# Altium schematic symbol library MLBSchLib.SchLib: 44 symbols
Pins are listed as number, name and electrical type; pins without a type are passive.

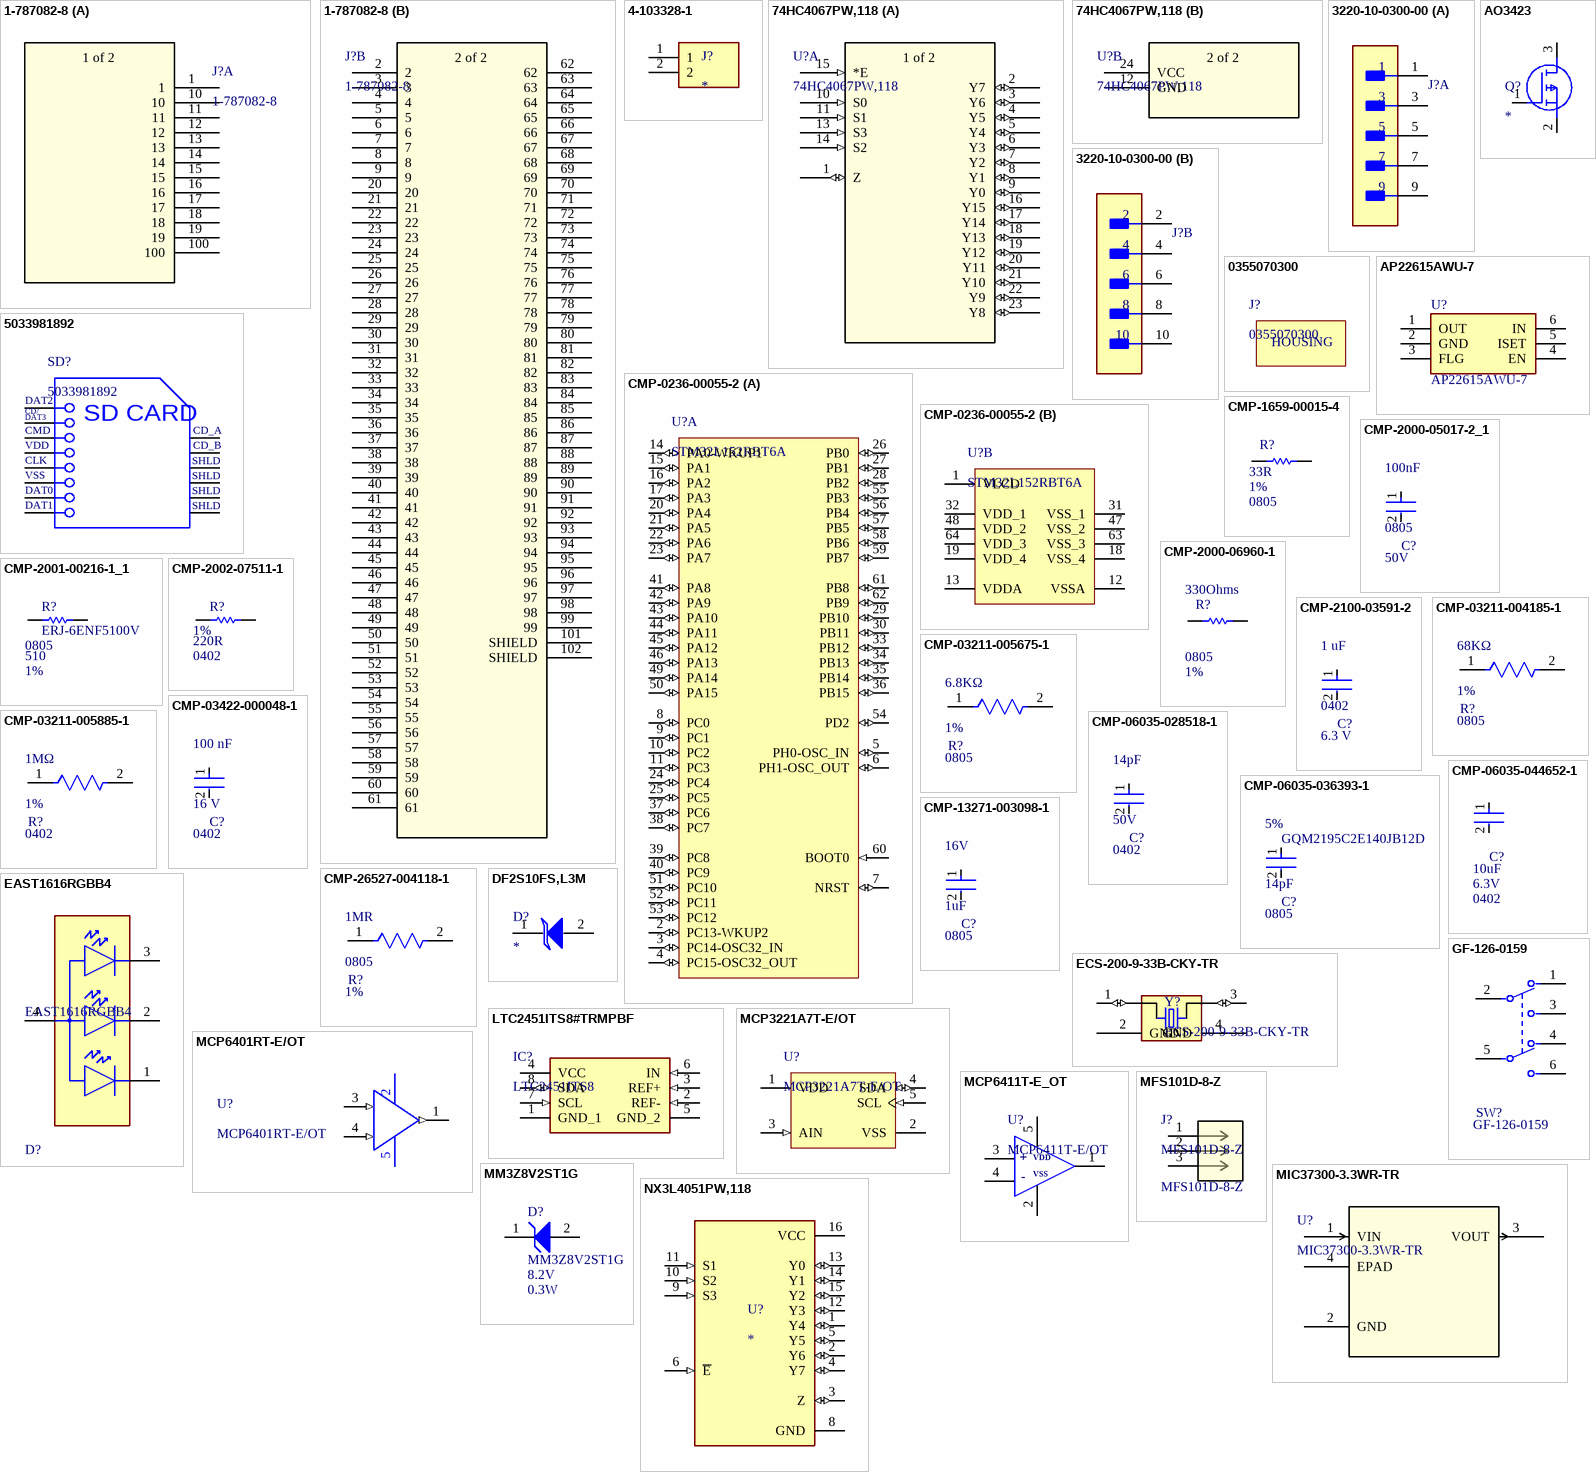
[diagram p0: symbols 1-787082-8 to NX3L4051PW,118]

## 1-787082-8
designator J?
No Description Available; Mfr_Name: TE Connectivity; Manufacturer: TE Connectivity AMP Connectors; Copyright: Copyright (C) 2022 Ultra Librarian. All rights reserved.; Manufacturer Part Number: 1-787082-8; Supplier Part Number: A35091-ND; RefDes: RefDes; Type: DEV; Supplier: Digi-Key
footprint CONN100_1-787082-8_TEC
part A pins: 1, 10, 11, 12, 13, 14, 15, 16, 17, 18, 19, 100
part B pins: 2, 3, 4, 5, 6, 7, 8, 9, 20, 21, 22, 23, 24, 25, 26, 27, 28, 29, 30, 31, 32, 33, 34, 35, 36, 37, 38, 39, 40, 41, 42, 43, 44, 45, 46, 47, 48, 49, 50, 51, 52, 53, 54, 55, 56, 57, 58, 59, 60, 61, 62, 63, 64, 65, 66, 67, 68, 69, 70, 71, 72, 73, 74, 75, 76, 77, 78, 79, 80, 81, 82, 83, 84, 85, 86, 87, 88, 89, 90, 91, 92, 93, 94, 95, 96, 97, 98, 99, 101 SHIELD, 102 SHIELD
part A text: 1 of 2
part B text: 2 of 2

## 4-103328-1
designator J?
Connector Header Through Hole 2 position; Manufacturer: TE Connectivity AMP Connectors; MP: 4-103328-1; MF: TE Connectivity; SnapEDA_Link: https://www.snapeda.com/parts/4-103328-1/TE%20Connectivity%20AMP%20Connectors/view-part/2384420/?ref=snap; TE_purchase_URL: https://www.te.com/usa-en/product-4-103328-1.html?te_bu=Cor&te_type=disp&te_campaign=seda_glo_cor-seda-global-disp-prtnr-fy19-seda-model-bom-cta_sma-317_1&elqCampaignId=32493; Availability: Unavailable; Value: *; EU_RoHS_Compliance: Compliant; Price: None; Package: None; Supplier: Digi-Key; Supplier Part Number: A121364-ND; Manufacturer Part Number: 4-103328-1
footprint TE_4-103328-1
pins: 1, 2

## 74HC4067PW,118
designator U?
No Description Available; Mfr_Name: Nexperia; Copyright: Copyright (C) 2022 Ultra Librarian. All rights reserved.; Manufacturer_Part_Number: 74HC4067PW,118; Digi-Key_Part_Number_1: 1727-2042-2-ND; Digi-Key_Part_Number_2: 1727-2042-1-ND; Digi-Key_Part_Number_3: 1727-2042-6-ND; RefDes: RefDes; Type: DEV
footprint TSSOP24_SOT355-1_NEX
part A pins: 1 Z (io), 2 Y7 (io), 3 Y6 (io), 4 Y5 (io), 5 Y4 (io), 6 Y3 (io), 7 Y2 (io), 8 Y1 (io), 9 Y0 (io), 10 S0 (in), 11 S1 (in), 13 S3 (in), 14 S2 (in), 15 *E (in), 16 Y15 (io), 17 Y14 (io), 18 Y13 (io), 19 Y12 (io), 20 Y11 (io), 21 Y10 (io), 22 Y9 (io), 23 Y8 (io)
part B pins: 12 GND, 24 VCC (power)
part A text: 1 of 2
part B text: 2 of 2

## 3220-10-0300-00
designator J?
CONN HEADER SMD 10POS 1.27MM; Manufacturer: CNC Tech; Manufacturer Part Number: 3220-10-0300-00; Supplier: Digi-Key; Supplier Part Number: 1175-1629-ND
footprint CNC_Tech_0_MFG
part A pins: 1, 3, 5, 7, 9
part B pins: 2, 4, 6, 8, 10

## 0355070300
designator J?
Manufacturer: Molex; Manufacturer Part Number: 0355070300; Supplier: Digi-Key; Supplier Part Number: WM5982-ND
text: HOUSING

## 5033981892
designator SD?
Micro SD Connector, Pitch 1.1 mm, 8 Position, Height 1.4 mm, -25 to 85 degC, RoHS, Tape and Reel; Manufacturer: Molex; Voltage Rating: 10VAC/DC; Current Rating: 500mA; Manufacturer URL: http://www.molex.com/; Package Reference: 503398-1892; Packaging: Reel; RoHS: Details; Brand: Molex; Datasheet URL: http://www.molex.com/pdm_docs/sd/5033981892_sd.pdf; Mounting Technology: SurfaceMount; Factory Pack Quantity: 2400; Datasheet Version: Rev. E, 04/2006; Series: 503398; Product Category: MemoryCardConnectors; Package Description: Micro SD Connector, Pitch 1.1 mm, 8 Position, Height 1.4 mm; Supplier: Digi-Key; Supplier Part Number: WM11190CT-ND; Manufacturer Part Number: 5033981892
footprint MOLX-503398-1892_V (CONN, 8-Leads, Body 14.05x13.2mm, Pitch 1.1mm)
pins: 1 DAT2, 2 CD/DAT3, 3 CMD, 4 VDD, 5 CLK, 6 VSS, 7 DAT0, 8 DAT1, 9 CD_A, 10 CD_B, 11 SHLD, 12 SHLD, 13 SHLD, 14 SHLD
text: CD/; DAT3; SD CARD

## AO3423
designator Q?
MOSFET (P-Channel); Manufacturer: Alpha & Omega Semiconductors; Manufacturer Part Number: AO3423; Datasheet Link: http://www.aosmd.com/pdfs/datasheet/AO3423.pdf; Height: 1.25mm; Supplier Part Number: 785-1016-1-ND; Supplier: Digi-Key; Arrow Part Number: AO3423; Arrow Price/Stock: https://www.arrow.com/en/products/ao3423/alpha-and-omega-semiconductor?region=nac
footprint SOT95P280X125-3N
pins: 1 G, 2 S, 3 D

## AP22615AWU-7
designator U?
Integrated Circuit; Manufacturer: Diodes Inc.; Datasheet Link: https://www.diodes.com/assets/Datasheets/AP22815-615.pdf; Height: 1mm; Supplier: Digi-Key; Supplier Part Number: AP22615AWU-7DICT-ND; Arrow Part Number: AP22615AWU-7; Arrow Price/Stock: https://www.arrow.com/en/products/ap22615awu-7/diodes-incorporated; Manufacturer Part Number: AP22615AWU-7
footprint SOT95P280X100-6N
footprint SOT95P280X100-6N
pins: 1 OUT, 2 GND, 3 FLG, 4 EN, 5 ISET, 6 IN

## CMP-0236-00055-2
designator U?, comment STM32L152RBT6A
ARM Cortex-M3 32-bit MCU, 128 KB Flash, 16 KB Internal RAM, 51 I/Os, 64-pin LQFP, -40 to 85 degC, Tray; Manufacturer: STMicroelectronics; D/A Converter: 2x12-bit (2 Channel); Internal RAM Size (kB): 16; Data E2PROM nom (B): 4096; FLASH Size (Prog) (kB): 128; Supply Voltage(Vcc) min (V): 1.65; I/Os (High Current): 51; Operating Frequency(F) (Processor speed) (MHz): 32; Packing: Tray; ComponentLink1Description: Manufacturer URL; PackageVersion: Rev. 4, 06/2013; DatasheetVersion: Rev. 8; PackageDescription: 64-Pin Low Profile Quad Flat Package, 10 x 10 mm Body, 0.5 mm Pitch; ComponentLink3URL: http://www.st.com/st-web-ui/static/active/en/resource/technical/document/datasheet/DM00037051.pdf; Mounting Technology: Surface Mount; PackageReference: LQFP64; ComponentLink1URL: http://www.st.com/web/en/home.html; ComponentLink2Description: Datasheet; ComponentLink3Description: Package Specification; Core: ARM Cortex-M3; PartNumber: STM32L152RBT6A; ComponentLink2URL: http://www.st.com/st-web-ui/static/active/en/resource/technical/document/datasheet/CD00277537.pdf; Manufacturer Part Number: STM32L152RBT6A; Supplier: Mouser; Supplier Part Number: 511-STM32L152RBT6A
footprint STM-LQFP64_L (Thin QFP, 64-Leads, Body 10x10mm, Pitch 0.5mm, IPC High Density)
footprint STM-LQFP64_N (Thin QFP, 64-Leads, Body 10x10mm, Pitch 0.5mm, IPC Medium Density)
footprint STM-LQFP64_V (Thin QFP, 64-Leads, Body 10x10mm, Pitch 0.5mm, ST Recommended)
footprint STM-LQFP64_M (Thin QFP, 64-Leads, Body 10x10mm, Pitch 0.5mm, IPC Low Density)
part A pins: 2 PC13-WKUP2 (io) "PC13-WKUP2/PC13/RTC_TAMP1/RTC_TS/RTC_OUT/WKUP2", 3 PC14-OSC32_IN (io) "PC14-OSC32_IN/PC14/OSC32_IN", 4 PC15-OSC32_OUT (io) "PC15-OSC32_OUT/PC15/OSC32_OUT", 5 PH0-OSC_IN (io) "PH0-OSC_IN/PH0/OSC_IN", 6 PH1-OSC_OUT (io) "PH1-OSC_OUT/PH1/OSC_OUT", 7 NRST (io), 8 PC0 (io) "PC0/ADC_IN10/LCD_SEG18/COMP1_INP", 9 PC1 (io) "PC1/ADC_IN11/LCD_SEG19/COMP1_INP", 10 PC2 (io) "PC2/ADC_IN12/LCD_SEG20/COMP1_INP", 11 PC3 (io) "PC3/ADC_IN13/LCD_SEG21/COMP1_INP", 14 PA0-WKUP1 (io) "PA0-WKUP1/PA0/WKUP1/USART2_CTS/ADC_IN0/TIM2_CH1_ETR/COMP1_INP", 15 PA1 (io) "PA1/USART2_RTS/ADC_IN1/TIM2_CH2/LCD_SEG0/COMP1_INP", 16 PA2 (io) "PA2/USART2_TX/ADC_IN2/TIM2_CH3/TIM9_CH1/LCD_SEG1/COMP1_INP", 17 PA3 (io) "PA3/USART2_RX/ADC_IN3/TIM2_CH4/TIM9_CH2/LCD_SEG2/COMP1_INP", 20 PA4 (io) "PA4/SPI1_NSS/USART2_CK/ADC_IN4/DAC_OUT1/COMP1_INP", 21 PA5 (io) "PA5/SPI1_SCK/ADC_IN5/DAC_OUT2/TIM2_CH1_ETR/COMP1_INP", 22 PA6 (io) "PA6/SPI1_MISO/ADC_IN6/TIM3_CH1/LCD_SEG3/TIM10_CH1/COMP1_INP", 23 PA7 (io) "PA7/SPI1_MOSI/ADC_IN7/TIM3_CH2/LCD_SEG4/TIM11_CH1/COMP1_INP", 24 PC4 (io) "PC4/ADC_IN14/LCD_SEG22/COMP1_INP", 25 PC5 (io) "PC5/ADC_IN15/LCD_SEG23/COMP1_INP", 26 PB0 (io) "PB0/ADC_IN8/TIM3_CH3/LCD_SEG5/COMP1_INP/VREF_OUT", 27 PB1 (io) "PB1/ADC_IN9/TIM3_CH4/LCD_SEG6/COMP1_INP/VREF_OUT", 28 PB2 (io) "PB2/BOOT1", 29 PB10 (io) "PB10/I2C2_SCL/USART3_TX/TIM2_CH3/LCD_SEG10", 30 PB11 (io) "PB11/I2C2_SDA/USART3_RX/TIM2_CH4/LCD_SEG11", 33 PB12 (io) "PB12/SPI2_NSS/I2C2_SMBA/USART3_CK/LCD_SEG12/ADC_IN18/COMP1_INP/TIM10_CH1", 34 PB13 (io) "PB13/SPI2_SCK/USART3_CTS/LCD_SEG13/ADC_IN19/COMP1_INP/TIM9_CH1", 35 PB14 (io) "PB14/SPI2_MISO/USART3_RTS/LCD_SEG14/ADC_IN20/COMP1_INP/TIM9_CH2", 36 PB15 (io) "PB15/SPI2_MOSI/LCD_SEG15/ADC_IN21/COMP1_INP/TIM11_CH1/RTC_REFIN", 37 PC6 (io) "PC6/TIM3_CH1/LCD_SEG24", 38 PC7 (io) "PC7/TIM3_CH2/LCD_SEG25", 39 PC8 (io) "PC8/TIM3_CH3/LCD_SEG26", 40 PC9 (io) "PC9/TIM3_CH4/LCD_SEG27", 41 PA8 (io) "PA8/USART1_CK/MCO/LCD_COM0", 42 PA9 (io) "PA9/USART1_TX/LCD_COM1", 43 PA10 (io) "PA10/USART1_RX/LCD_COM2", 44 PA11 (io) "PA11/USART1_CTS/USB_DM/SPI1_MISO", 45 PA12 (io) "PA12/USART1_RTS/USB_DP/SPI1_MOSI", 46 PA13 (io) "PA13/JTMS/SWDAT", 49 PA14 (io) "PA14/JTCK/SWCLK", 50 PA15 (io) "PA15/JTDI/TIM2_CH1_ETR/SPI1_NSS/LCD_SEG17", 51 PC10 (io) "PC10/USART3_TX/LCD_SEG28/LCD_SEG40/LCD_COM4", 52 PC11 (io) "PC11/USART3_RX/LCD_SEG29/LCD_SEG41/LCD_COM5", 53 PC12 (io) "PC12/USART3_CK/LCD_SEG30/LCD_SEG42/LCD_COM6", 54 PD2 (io) "PD2/TIM3_ETR/LCD_SEG31/LCD_SEG43/LCD_COM7", 55 PB3 (io) "PB3/JTDO/TIM2_CH2/SPI1_SCK/COMP2_INM/LCD_SEG7", 56 PB4 (io) "PB4/NJTRST/TIM3_CH1/SPI1_MISO/COMP2_INP/LCD_SEG8", 57 PB5 (io) "PB5/I2C1_SMBA/TIM3_CH2/SPI1_MOSI/COMP2_INP/LCD_SEG9", 58 PB6 (io) "PB6/I2C1_SCL/TIM4_CH1/USART1_TX", 59 PB7 (io) "PB7/I2C1_SDA/TIM4_CH2/USART1_RX/PVD_IN", 60 BOOT0 (in), 61 PB8 (io) "PB8/TIM4_CH3/I2C1_SCL/LCD_SEG16/TIM10_CH1", 62 PB9 (io) "PB9/TIM4_CH4/I2C1_SDA/LCD_COM3/TIM11_CH1"
part B pins: 1 VLCD (power), 12 VSSA (power), 13 VDDA (power), 18 VSS_4 (power), 19 VDD_4 (power), 31 VSS_1 (power), 32 VDD_1 (power), 47 VSS_2 (power), 48 VDD_2 (power), 63 VSS_3 (power), 64 VDD_3 (power)

## CMP-1659-00015-4
designator R?, comment Package Reference: 0805  Tolerance: 1%  Resistance: 33R  (hidden comment: RC0805FR-0733RL)
Chip Resistor, 33 Ohm, +/- 1%, 0.125 W, -55 to 155 degC, 0805 (2012 Metric), RoHS, Tape and Reel; Manufacturer: Yageo; Voltage Rating: 150 V; Max Operating Temperature: 155 degC; DatasheetVersion: Rev. 4, 02/2016; RoHSCompliant: true; ComponentLink2Description: Datasheet; PackageDescription: 2-Pin Surface Mounted Device, Body 2 x 1.25 mm; Package Quantity: 5000; Packaging: Tape and Reel; Min Operating Temperature: -55 degC; Mount: Surface Mount; REACH SVHC: No SVHC; ComponentLink1Description: Manufacturer URL; ComponentLink1URL: http://www.yageo.com/; Pins: 2; Mounting Technology: Surface Mount; Height: 0.5 mm; ComponentLink2URL: http://www.yageo.com/documents/recent/PYu-RC_Group_51_RoHS_L_04.pdf; PackageReference: 0805; Length: 2 mm; Manufacturer Part Number: RC0805FR-0733RL; Supplier: Digi-Key; Supplier Part Number: 311-33.0CRCT-ND
footprint RESC2013X60X35NL10T20 (Chip Resistor, 2-Leads, Body 2.1x1.35mm, IPC Medium Density)
footprint RESC2013X60X35LL10T20 (Chip Resistor, 2-Leads, Body 2.1x1.35mm, IPC High Density)
footprint RESC2013X60X35ML10T20 (Chip Resistor, 2-Leads, Body 2.1x1.35mm, IPC Low Density)
pins: 1, 2

## CMP-2000-05017-2_1
designator C?, comment Voltage: 50V  Case/Package: 0805  Capacitance: 100nF  (hidden comment: CL21B104KBCNNNC)
CL21 Series 0805 100nF 50V ±10% Tolerance X7R Multilayer Ceramic Chip Capacitor; Manufacturer: Samsung Electro-Mechanics; Depth: 1.25mm; Height: 0.85mm; Width: 0.049inch; Tolerance: 10%; Case Code (Metric): 2012; Case Code (Imperial): 0805; Material: Ceramic; Thickness: 0.037inch; Min Operating Temperature: -55°C; Contact Plating: Tin; Length: 2mm; Mount: Surface Mount; Voltage Rating (DC): 50V; Lead Free: Lead Free; Dielectric: X7R; Radiation Hardening: No; Voltage Rating: 50V; Packaging: Tape and Reel; Max Operating Temperature: 125°C; Manufacturer Part Number: CL21B104KBCNNNC; Supplier: Digi-Key; Supplier Part Number: 1276-1003-1-ND
footprint FP-CL21-IPC_A
footprint FP-CL21-IPC_B
footprint FP-CL21-IPC_C
pins: 1, 2

## CMP-2000-06960-1
designator R?, comment Tolerance: 1%  Case Code - in: 0805  Resistance: 330Ohms  (hidden comment: RC0805FR-07330RL)
Chip Resistor, 330 Ohm, +/- 1%, 125 mW, -55 to 155 degC, 0805 (2012 Metric), RoHS, Tape and Reel; Manufacturer: Yageo; Voltage Rating: 150V; Temperature Coefficient: 100PPM/C; Power Rating: 125mW(1/8W); Datasheet Version: Rev. 7, 05/2017; Termination Style: SMD/SMT; Case Code - mm: 2012; Package Description: 2-Pin Surface Mounted Device, Body 2 x 1.25 mm; Operating Temperature Range: -55Cto+155C; Packaging: Reel; Package Reference: 0805; Mounting Technology: SurfaceMount; Product: ThickFilmResistorsGeneralPurpose; Series: RC; Manufacturer URL: http://www.yageo.com/; Datasheet URL: http://www.yageo.com/documents/recent/PYu-RC_Group_51_RoHS_L_7.pdf; Manufacturer Part Number: RC0805FR-07330RL; Supplier: Digi-Key; Supplier Part Number: 311-330CRCT-ND
footprint RESC2013X60X35NL10T20 (Chip Resistor, 2-Leads, Body 2.1x1.35mm, IPC Medium Density)
footprint RESC2013X60X35LL10T20 (Chip Resistor, 2-Leads, Body 2.1x1.35mm, IPC High Density)
footprint RESC2013X60X35ML10T20 (Chip Resistor, 2-Leads, Body 2.1x1.35mm, IPC Low Density)
pins: 1, 2

## CMP-2001-00216-1_1
designator R?, comment ERJ-6ENF5100V  Tolerance: 1%  Resistance: 510  Package Reference: 0805
Manufacturer: Panasonic; Manufacturer Part Number: ERJ-6ENF5100V; Supplier: Digi-Key; Supplier Part Number: P510CCT-ND
footprint RESC2013X70X40NL20T20 (Chip Resistor, 2-Leads, Body 2.00x1.25mm, IPC Medium Density)
footprint RESC2013X70X40LL20T20 (Chip Resistor, 2-Leads, Body 2.00x1.25mm, IPC High Density)
footprint RESC2013X70X40ML20T20 (Chip Resistor, 2-Leads, Body 2.00x1.25mm, IPC Low Density)
pins: 1, 2
1 alternate drawing of the same symbol

## CMP-2002-07511-1
designator R?, comment Package Reference: 0402  Resistance: 220R  Tolerance: 1%  (hidden comment: RC0402FR-07220RL)
Manufacturer: YAGEO; Manufacturer Part Number: RC0402FR-07220RL; Supplier: Digi-Key; Supplier Part Number: 311-220LRCT-ND
footprint RESC1005X40X25ML05T10 (Chip Resistor, 2-Leads, Body 1.00x0.50mm, IPC Low Density)
footprint RESC1005X40X25LL05T10 (Chip Resistor, 2-Leads, Body 1.00x0.50mm, IPC High Density)
footprint RESC1005X40X25NL05T10 (Chip Resistor, 2-Leads, Body 1.00x0.50mm, IPC Medium Density)
footprint FP-CC0402-IPC_B
pins: 1, 2
1 alternate drawing of the same symbol

## CMP-2100-03591-2
designator C?, comment Voltage Rating: 6.3 V  Package: 0402  Capacitance: 1 uF  (hidden comment: CC0402KRX5R5BB105)
CAP CER 1UF 6.3V X5R 0402; Manufacturer: YAGEO; Automotive Grade: NA; Material: Ceramic; Tolerance: 0.1; Temperature Coefficient: 30ppm/°C; Temperature Range Low: -55°C; Digikey Description: CAP CER 1UF 6.3V X5R 0402; Height: 0.55mm; Automotive: No; ComponentLink2URL: http://www.yageo.com/documents/recent/UPY-GP_NP0_16V-to-50V_16.pdf; Device Class L2: Capacitors; RoHS: TRUE; Temperature Range High: +125°C; Device Class L3: Ceramic Capacitors; Device Class L1: Passive Components; Temperature Characteristic: X5R; Octopart: https://octopart.com/cc0402krx5r5bb105-yageo-42244618; ComponentLink2Description: Datasheet; Temperature: -55°C to +125°C; Manufacturer Part Number: CC0402KRX5R5BB105; Mouser Description: Multilayer Ceramic Capacitors MLCC - SMD/SMT 1uF 6.3V X5R 10%; Category: Cap; Footprint Url: http://www.yageo.com/exep/pages/download/literatures/UPY-C_GEN_24.pdf; Lead Free: Yes; Ipc Land Pattern Name: CAPC10050X50; Value: 1 uF; Supplier: Digi-Key; Supplier Part Number: 311-1438-1-ND
footprint FP-CC0402-IPC_C
footprint FP-CC0402-MFG
footprint FP-CC0402-IPC_B
footprint FP-CC0402-IPC_A
footprint FP-CC0402-IPC_B
pins: 1, 2

## CMP-03211-004185-1
designator R?, comment Package Reference: 0805  Tolerance: 1%  Resistance: 68KΩ  (hidden comment: CRGCQ0805F68K)
CRGCQ0805 68KΩ 0.125W ±100ppm/°C 1% 150V; Manufacturer: TE Connectivity Passive Product; Temperature Coefficient: ±100ppm/°C; Height: 0.65mm; Composition: Thick Film; Package: CRGCQ0805; Temperature Range High: +155°C; ComponentLink2Description: Datasheet; Device Class L3: Chip SMD Resistors; Ipc Land Pattern Name: RESC200125X55; Temperature Range Low: -55°C; Category: Res; Automotive: Yes; Ambient Temperature Range High: +70°C; Power Rating: 0.125W; Octopart: https://octopart.com/crgcq0805f68k-te+connectivity-91018191; Lead Free: Yes; RoHS: TRUE; Automotive Grade: Grade 1103; Device Class L1: Passive Components; Voltage Rating: 150V; ComponentLink2URL: https://www.te.com/commerce/DocumentDelivery/DDEController?Action=showdoc&DocId=Data+Sheet%7F1773204-3%7F1%7Fpdf%7FEnglish%7FENG_DS_1773204-3_1.pdf%7F4-2176341-1112; Series: CRGCQ; Temperature: -55°C to +155°C; Manufacturer Part Number: CRGCQ0805F68K; Device Class L2: Resistors; Value: 68KΩ; Supplier: Digi-Key; Supplier Part Number: A129771CT-ND
footprint FP-CRGCQ0805-IPC_C
footprint FP-CRGCQ0805-IPC_B
footprint FP-CRGCQ0805-IPC_A
pins: 1, 2

## CMP-03211-005675-1
designator R?, comment value 6.8KΩ  Package Reference: 0805  Tolerance: 1%  (hidden comment: CRGCQ0805F6K8)
CRGCQ0805 6.8KΩ 0.125W ±100ppm/°C 1% 150V; Manufacturer: TE Connectivity Passive Product; Automotive Grade: Grade 875; Power Rating: 0.125W; Octopart: https://octopart.com/crgcq0805f6k8-te+connectivity-91018193; Device Class L1: Passive Components; Device Class L2: Resistors; Temperature Range Low: -55°C; Temperature: -55°C to +155°C; ComponentLink2URL: https://www.te.com/commerce/DocumentDelivery/DDEController?Action=showdoc&DocId=Data+Sheet%7F1773204-3%7F1%7Fpdf%7FEnglish%7FENG_DS_1773204-3_1.pdf%7F4-2176341-884; Resistance: 6.8KΩ; Temperature Range High: +155°C; Ipc Land Pattern Name: RESC200125X55; Composition: Thick Film; Temperature Coefficient: ±100ppm/°C; Ambient Temperature Range High: +70°C; Package: CRGCQ0805; Voltage Rating: 150V; Device Class L3: Chip SMD Resistors; ComponentLink2Description: Datasheet; Lead Free: Yes; RoHS: TRUE; Manufacturer Part Number: CRGCQ0805F6K8; Height: 0.65mm; Series: CRGCQ; Category: Res; Automotive: Yes; Supplier: Digi-Key; Supplier Part Number: A129759CT-ND
footprint FP-CRGCQ0805-IPC_C
footprint FP-CRGCQ0805-IPC_B
footprint FP-CRGCQ0805-IPC_A
pins: 1, 2

## CMP-03211-005885-1
designator R?, comment value 1MΩ  Package Reference: 0402  Tolerance: 1%  (hidden comment: CRGCQ0402F1M0)
Res Thick Film 0402 1M Ohm 1% 0.063W(1/16W) ±100ppm/C Pad SMD Automotive T/R; Manufacturer: TE Connectivity Passive Product; Voltage Rating: 50V; Temperature Coefficient: ±100ppm/°C; Power Rating: 0.0625W; Series: CRGCQ; Digikey Description: Res Thick Film 0402 1M Ohm 1% 0.063W(1/16W) ±100ppm/C Pad SMD Automotive T/R; Automotive: Yes; ComponentLink2URL: https://www.te.com/commerce/DocumentDelivery/DDEController?Action=showdoc&DocId=Data+Sheet%7F1773204-3%7F1%7Fpdf%7FEnglish%7FENG_DS_1773204-3_1.pdf%7F4-2176347-1378; Ipc Land Pattern Name: RESC10050X35; Manufacturer Part Number: CRGCQ0402F1M0; Category: Res; ComponentLink2Description: Datasheet; Temperature Range High: +155°C; Temperature Range Low: -55°C; Device Class L3: Chip SMD Resistors; RoHS: TRUE; Lead Free: Yes; Octopart: https://octopart.com/crgcq0402f1m0-te+connectivity-91017950; Ambient Temperature Range High: +70°C; Package: CRGCQ0402; Mouser Description: Res Thick Film 0402 1M Ohm 1% 0.063W(1/16W) ±100ppm/C Pad SMD Automotive T/R; Device Class L1: Passive Components; Resistance: 1MΩ; Temperature: -55°C to +155°C; Composition: Thick Film; Device Class L2: Resistors; Height: 0.4mm; Supplier: Digi-Key; Supplier Part Number: A129663CT-ND
footprint FP-CRGCQ0402-IPC_A
footprint FP-CRGCQ0402-IPC_C
footprint FP-CRGCQ0402-IPC_B
footprint FP-CC0402-IPC_B
pins: 1, 2

## CMP-03422-000048-1
designator C?, comment Package: 0402  Voltage Rating: 16 V  Capacitance: 100 nF  (hidden comment: CC0402KRX7R7BB104)
CAP CER 0.1UF 16V X7R 0402; Manufacturer: YAGEO; Material: Ceramic; Automotive Grade: NA; Temperature Coefficient: 30ppm/°C; Tolerance: 0.1; Value: 100 nF; Device Class L1: Passive Components; Temperature Range Low: -55°C; Device Class L3: Ceramic Capacitors; Temperature Characteristic: X7R; Ipc Land Pattern Name: CAPC10050X50; Temperature Range High: +125°C; Temperature: -55°C to +125°C; RoHS: TRUE; Automotive: No; Height: 0.55mm; Device Class L2: Capacitors; Digikey Description: CAP CER 0.1UF 16V X7R 0402; Footprint Url: http://www.yageo.com/exep/pages/download/literatures/UPY-C_GEN_24.pdf; ComponentLink2Description: Datasheet; Category: Cap; Lead Free: Yes; Octopart: https://octopart.com/cc0402krx7r7bb104-yageo-42244624; ComponentLink2URL: http://www.yageo.com/documents/recent/UPY-GP_NP0_16V-to-50V_16.pdf; Manufacturer Part Number: CC0402KRX7R7BB104; Mouser Description: 0402 0.1 uF 16 V ±10 % Tolerance X7R SMT Multilayer Ceramic Capacitor; Supplier: Digi-Key; Supplier Part Number: 311-1338-1-ND
footprint FP-CC0402-IPC_C
footprint FP-CC0402-MFG
footprint FP-CC0402-IPC_B
footprint FP-CC0402-IPC_A
footprint FP-CC0402-IPC_B
pins: 1, 2

## CMP-06035-028518-1
designator C?, comment Package Reference: 0402  Voltage Rating (DC): 50V  Capacitance: 14pF  (hidden comment: GJM1555C1H140GB01D)
Multi-Layer Ceramic Capacitor 14pF C0G  ±2% 0402 Paper T/R; Manufacturer: Murata Electronics; Tolerance: 2%; Length: 1mm; Dielectric: C0G; Thickness: 500um; Width: 500um; Manufacturer Part Number: GJM1555C1H140GB01D; Supplier: Digi-Key; Supplier Part Number: 490-14443-1-ND
footprint FP-GJM155-0_05-IPC_C
footprint FP-GJM155-0_05-IPC_A
footprint FP-GJM155-0_05-IPC_B
footprint FP-GJM155-0_05-MFG
footprint FP-CC0402-IPC_B
pins: 1, 2

## CMP-06035-036393-1
designator C?, comment GQM2195C2E140JB12D  Package Reference: 0805  Capacitance: 14pF  Tolerance: 5%
Ceramic Capacitor 14pF ±5% 250VDC C0G 0805 Paper T/R; Manufacturer: Murata Electronics; Voltage Rating (DC): 250V; Dielectric: C0G; Width: 1.25mm; Thickness: 850um; Length: 2mm; Manufacturer Part Number: GQM2195C2E140JB12D; Supplier: Digi-Key; Supplier Part Number: 490-GQM2195C2E140JB12DCT-ND
footprint FP-GQM219-0_15-IPC_C
footprint FP-GQM219-0_15-MFG
footprint FP-GQM219-0_15-IPC_A
footprint FP-GQM219-0_15-IPC_B
pins: 1, 2

## CMP-06035-044652-1
designator C?, comment Package: 0402  Voltage: 6.3V  Capacitance: 10uF  (hidden comment: GRM155R60J106ME05D)
Chip Multilayer Ceramic Capacitors for General Purpose, 0402, 10uF, X5R, 15%, 20%, 6.3V; Manufacturer: Murata Electronics; Manufacturer Part Number: GRM155R60J106ME05D; Supplier: Digi-Key; Supplier Part Number: 490-GRM155R60J106ME05DCT-ND
footprint FP-GRM155-0_2-IPC_A
footprint FP-GRM155-0_2-IPC_B
footprint FP-GRM155-0_2-MFG
footprint FP-GRM155-0_2-IPC_C
footprint FP-CC0402-IPC_B
pins: 1, 2

## CMP-13271-003098-1
designator C?, comment Case/Package: 0805  Capacitance: 1uF  Voltage: 16V  (hidden comment: CL21B105KOFNNNE)
CL21 Series 0805 1uF 16V ±10% Tolerance X7R Multilayer Ceramic Chip Capacitor; Manufacturer: Samsung Electro-Mechanics; Width: 0.049inch; Thickness: 0.053inch; Voltage Rating: 16V; Max Operating Temperature: 125°C; Case Code (Imperial): 0805; Height: 1.25mm; Length: 2mm; Lead Free: Lead Free; Mount: Surface Mount; Tolerance: 10%; Voltage Rating (DC): 16V; Min Operating Temperature: -55°C; Contact Plating: Tin; Depth: 1.25mm; Packaging: Tape and Reel; Package Quantity: 1; Dielectric: X7R; Radiation Hardening: No; Case Code (Metric): 2012; Manufacturer Part Number: CL21B105KOFNNNE; Supplier: Digi-Key; Supplier Part Number: 1276-1026-1-ND
footprint FP-CL21-IPC_A
footprint FP-CL21-IPC_B
footprint FP-CL21-IPC_C
pins: 1, 2

## CMP-26527-004118-1
designator R?, comment Tolerance: 1%  Case/Package: 0805  Resistance: 1MR  (hidden comment: RMCF0805FG1M00)
1MΩ ±1% 0.125W 0805 Thick Film Chip Resistor AEC-Q200 compliant; Max Power Dissipation: 125mW; Temperature Coefficient: 100ppm/°C; Case Code (Metric): 2012; Mount: Surface Mount; Contact Plating: Tin; Case Code (Imperial): 0805; Width: 0.049inch; Depth: 1.25mm; Length: 0.079inch; Packaging: Tape and Reel; Height: 0.026inch; Package Quantity: 10000; Number of Terminations: 2; Radiation Hardening: No; Max Operating Temperature: 155°C; Resistor Type: Thick Film; Series: RMCF; Construction: Rectangular; Min Operating Temperature: -55°C; RoHS Compliant: Yes; Military Standard: Not; Manufacturer: RMCF0805FG1M00; Manufacturer Part Number: RMCF0805FG1M00; Supplier: Digi-Key; Supplier Part Number: RMCF0805FG1M00CT-ND
footprint FP-RMCF0805-MFG
footprint FP-RMCF0805-IPC_A
footprint FP-RMCF0805-IPC_B
footprint FP-RMCF0805-IPC_C
pins: 1, 2

## DF2S10FS,L3M
designator D?
TVS DIODE 8VWM FSC; Manufacturer_Name: Toshiba; Manufacturer_Part_Number: DF2S10FS,L3M; Manufacturer: Toshiba Semiconductor and Storage; Datasheet Link: https://componentsearchengine.com/Datasheets/1/DF2S10FS,L3M.pdf; Height: 0.45mm; Mouser Part Number: 757-DF2S10FSL3M; Mouser Price/Stock: https://www.mouser.co.uk/ProductDetail/Toshiba/DF2S10FSL3M?qs=lhkzy8lC%252BSsM5fAm2E7mCQ%3D%3D; Arrow Part Number: DF2S10FS,L3M; Arrow Price/Stock: https://www.arrow.com/en/products/df2s10fsl3m/toshiba?region=nac; Manufacturer Part Number: DF2S10FS,L3M; Supplier: Digi-Key; Supplier Part Number: DF2S10FSL3MCT-ND
footprint DIOM106X45N
footprint DIOM106X45N
pins: 1 K, 2 A

## EAST1616RGBB4
designator D?
LED RGB CLEAR 4SMD; Manufacturer: Everlight Electronics Co Ltd; Element Configuration: Common Anode; Test Current: 5mA; Lens Color: Colorless; Lens Size: 1.1mm; Viewing Angle: 120°; Color: Blue; Lens Style: Flat; Forward Voltage: 2.8V; Mount: Surface Mount; Length: 1.6mm; Packaging: Tape and Reel; Case/Package: 0606; Lens Transparency: Clear; Case Code (Metric): 1616; Width: 1.6mm; Height: 0.45mm; Case Code (Imperial): 0606; Manufacturer Part Number: EAST1616RGBB4; Supplier: Digi-Key; Supplier Part Number: 1080-1552-1-ND
footprint FP-EAST1616RGBB4-MFG
pins: 1 RED C, 2 GREEN C, 3 BLUE C, 4 COMMON ANODE

## ECS-200-9-33B-CKY-TR
designator Y?
Crystal 20MHz Â±10ppm (Tol) Â±10ppm (Stability) 9pF FUND 40Ohm 4-Pin Mini-CSMD T/R; MF: ECS Inc.; Availability: Good; Package: None; Value: *; Price: None; SnapEDA_Link: https://www.snapeda.com/parts/ECS-260-9-33B-CKY-TR/ECS%20Inc./view-part/5048361/?ref=snap; Check_prices: https://www.snapeda.com/parts/ECS-260-9-33B-CKY-TR/ECS%20Inc./view-part/5048361/?ref=eda; Purchase-URL: https://pricing.snapeda.com/search/part/ECS-260-9-33B-CKY-TR/?ref=eda; Manufacturer: ECS Inc.; Manufacturer Part Number: ECS-200-9-33B-CKY-TR; Supplier: Digi-Key; Supplier Part Number: XC2464CT-ND
footprint XTAL_ECS-260-9-33B-CKY-TR
pins: 1 IN/OUT (io), 2 GND (power), 3 OUT/IN (io), 4 GND (power)

## GF-126-0159
designator SW?  Manufacturer Part Number: GF-126-0159  (hidden comment: *)
Manufacturer: CW Industries; Supplier: Digi-Key; Supplier Part Number: SW342-ND
pins: 1, 2, 3, 4, 5, 6

## LTC2451ITS8#TRMPBF
designator IC?, comment LTC2451ITS8
IC ADC 16BIT SIG-DELTA TSOT23-8; Manufacturer: Analog Devices Inc.; Manufacturer Part Number: LTC2451ITS8#TRPBF; Datasheet Link: http://www.farnell.com/datasheets/1705581.pdf?_ga=2.21625278.449712991.1504041739-494487131.1503310922; Height: 1mm; Mouser Part Number: 584-C2451ITS8TRMPBF; Mouser Price/Stock: https://www.mouser.com/Search/Refine.aspx?Keyword=584-C2451ITS8TRMPBF; Arrow Part Number: LTC2451ITS8#TRMPBF; Arrow Price/Stock: https://www.arrow.com/en/products/ltc2451its8trmpbf/linear-technology; Supplier: Digi-Key; Supplier Part Number: 505-LTC2451ITS8#TRPBFCT-ND
footprint SOT65P280X100-8N
pins: 1 GND_1 (power), 2 REF- (in), 3 REF+ (in), 4 VCC (power), 5 GND_2 (power), 6 IN (in), 7 SCL (in), 8 SDA (io)

## MCP3221A7T-E/OT
designator U?
Low Power 12-Bit A/D Converter With I2C Interface, 5-Pin SOT-23, Extended Temperature, Tape and Reel; Manufacturer: Microchip Technology; ComponentLink1Description: Manufacturer URL; ComponentLink2URL: http://ww1.microchip.com/downloads/en/DeviceDoc/21732c.pdf; RevisionNote: URLs added.; ComponentLink3URL: http://www.microchip.com/stellent/groups/techpub_sg/documents/packagingspec/en012702.pdf; Code_IPC: SOT23-5; ComponentLink3Description: Package Specification; ComponentLink1URL: http://www.microchip.com/; PackageVersion: revBB, Aug-2009; PackageReference: SOT-23-OT5; ComponentLink2Description: Datasheet; DatasheetVersion: revC, Jul-2006; PackageDescription: 5-Lead Plastic Small Outline Transistor (OT) [SOT-23]; Manufacturer Part Number: MCP3221A7T-E/OT; Supplier: Digi-Key; Supplier Part Number: MCP3221A7T-E/OTCT-ND
footprint SOT-23-OT5_M (SOT23, 5-Leads, Body 2.9x1.7mm, Pitch 0.95mm, Lead Span 2.8mm, IPC Low Density)
footprint SOT-23-OT5_N (SOT23, 5-Leads, Body 2.9x1.7mm, Pitch 0.95mm, Lead Span 2.8mm, IPC Medium Density)
footprint SOT-23-OT5_L (SOT23, 5-Leads, Body 2.9x1.7mm, Pitch 0.95mm, Lead Span 2.8mm, IPC High Density)
pins: 1 VDD (power), 2 VSS (power), 3 AIN (in), 4 SDA (io), 5 SCL (in)

## MCP6401RT-E/OT
designator U?
IC, OP-AMP, 1MHZ, 0.5V/Âµs; Manufacturer: Microchip Technology; Manufacturer Part Number: MCP6476RT-E/OT; Package: None; Price: None; Value: *; MP: MCP6401RT-E/OT; Availability: Unavailable; Supplier: Digi-Key; Supplier Part Number: 150-MCP6476RT-E/OTCT-ND
footprint SOT95P320X145-5N
pins: 1 (out), 2, 3 (in), 4 (in), 5

## MCP6411T-E_OT
designator U?, comment MCP6411T-E/OT
IC OPAMP GP 1 CIRCUIT SOT23-5; Manufacturer: Microchip; Datasheet Link: http://ww1.microchip.com/downloads/en/DeviceDoc/20005791B.pdf; Height: 1.45mm; Manufacturer Part Number: MCP6411T-E/OT; Mouser Part Number: 579-MCP6411T-E/OT; Mouser Price/Stock: https://www.mouser.com/Search/Refine.aspx?Keyword=579-MCP6411T-E%2FOT; Arrow Part Number: MCP6411T-E/OT; Arrow Price/Stock: https://www.arrow.com/en/products/mcp6411t-eot/microchip-technology; Supplier: Digi-Key; Supplier Part Number: MCP6411T-E/OTCT-ND
footprint SOT95P280X145-5N
pins: 1 VOUT, 2 VSS, 3 VIN+, 4 VIN-, 5 VDD
text: +; -

## MFS101D-8-Z
designator J?
No Description Available; Manufacturer: Nidec Copal Electronics; Copyright: Copyright (C) 2022 Ultra Librarian. All rights reserved.; RefDes: RefDes; Type: DEV; Supplier: Digi-Key; Supplier Part Number: 563-1556-ND; Manufacturer Part Number: MFS101D-8-Z
footprint CONN03_MFS_11P8X5P8_NDC
pins: 1, 2, 3

## MIC37300-3.3WR-TR
designator U?
IC REG LINEAR 3.3V 3A SPAK-3; Manufacturer: Microchip Technology; Copyright: Copyright (C) 2022 Ultra Librarian. All rights reserved.; Manufacturer Part Number: MIC37300-3.3WR-TR; RefDes: RefDes; Type: DEV; Supplier: Digi-Key; Supplier Part Number: MIC37300-3.3WR-CT-ND
footprint S-PAK-3_R_MCH
pins: 1 VIN (power), 2 GND (power), 3 VOUT (power), 4 EPAD

## MM3Z8V2ST1G
designator D?  Zener Voltage: 8.2V  P Max (W): 0.3W
Zener Voltage Regulator, 300 mW, Tight Tolerance Portfolio, 2-Pin SOD-323, Pb-Free, Tape and Reel; Manufacturer: On Semiconductor; PackageVersion: Rev. H, 03/2007; RoHS: Pb-Free; Mounting Technology: Surface Mount; Manufacturer Part Number: MM3Z8V2ST1G; PackageDescription: 2-Pin SOD, Body 1.7 x 1.25 mm; ComponentLink2Description: Datasheet; ComponentLink3Description: Package Specification; PackageReference: SOD-323-2-477-02; ComponentLink1Description: Manufacturer URL; ComponentLink3URL: http://www.onsemi.com/pub_link/Collateral/477-02.PDF.1; ComponentLink1URL: http://www.onsemi.com/; DatasheetVersion: Rev. 21; Packing: Tape and Reel; ComponentLink2URL: http://www.onsemi.cn/pub_link/Collateral/MM3Z2V4ST1-D.PDF; Supplier: Digi-Key; Supplier Part Number: MM3Z8V2ST1GOSCT-ND
footprint ONSC-SOD-323-2-477-02_V (SOD, 2-Leads, Body 1.7x1.25mm)
pins: 1 K, 2 A

## NX3L4051PW,118
designator U?
1 Circuit IC Switch 8:1 750mOhm 16-TSSOP; MP: NX3L4051PW,118; MF: NXP USA; Check_prices: https://www.snapeda.com/parts/NX3L4051PW,118/NXP%20USA%20Inc./view-part/648693/?ref=eda; SnapEDA_Link: https://www.snapeda.com/parts/NX3L4051PW,118/NXP%20USA%20Inc./view-part/648693/?ref=snap; Package: TSSOP-16 NXP USA; Value: *; Digi-Key_Part_Number: 568-12393-1-ND; Purchase-URL: https://pricing.snapeda.com/search/part/NX3L4051PW,118/?ref=eda
footprint SOP65P640X110-16N - duplicate
footprint SOP65P640X110-16N - duplicate
footprint SOP65P640X110-16N - duplicate
pins: 1 Y4 (io), 2 Y6 (io), 3 Z (io), 4 Y7 (io), 5 Y5 (io), 6 ~{E} (in), 8 GND (power), 9 S3 (in), 10 S2 (in), 11 S1 (in), 12 Y3 (io), 13 Y0 (io), 14 Y1 (io), 15 Y2 (io), 16 VCC (power)

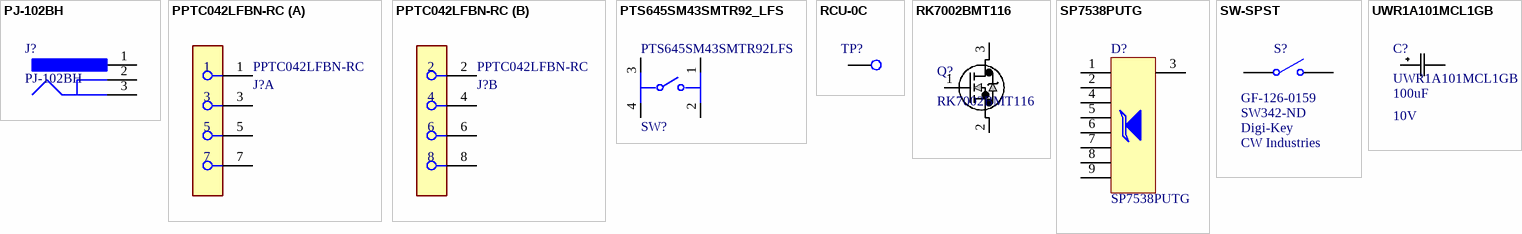
[diagram p1: symbols PJ-102BH to UWR1A101MCL1GB]

## PJ-102BH
designator J?
Through Hole Right Angle DC Power Jack, 5 A, 2.5 mm Center Pin, 3 Position, -25 to 85 degC, RoHS, Bulk; Manufacturer: CUI Devices; Outside Contact Diameter: 6.5mm; Current Rating: 5A; Brand: CUI; Insulation Resistance: 100MOhms; Inside Contact Diameter: 2.5mm; Voltage Rating: 24V; Operating Temperature Range: -25Cto+85C; Mounting Angle: Right; Mounting Technology: ThroughHole; Product Category: DCPowerConnectors; Datasheet Version: Rev. 1.02, 05/2016; Connector Type: DCPowerJack; Contact Material: Copper; Housing Material: PolybutyleneTerephthalate(PBT); Mounting Style: ThroughHole; Product: Jacks; Package Reference: PJ-102BH; Manufacturer URL: http://www.cui.com/; RoHS: True; Contact Gender: Male; Contact Plating: Nickel; Flammability Rating: UL94V-0; Factory Pack Quantity: 280; Datasheet URL: http://www.cui.com/product/resource/pj-102bh.pdf; Package Description: 3-Pin Through Hole Device, Body 14.4 x 9 mm, Height 11 mm; Termination Style: ThroughHole; Supplier Part Number: CP-102BH-ND; Manufacturer Part Number: PJ-102BH; Supplier: Digi-Key
footprint CUI-PJ-102BH_V (THD, 3-Leads, Body 14.4x9mm, Height 11mm)
pins: 1, 2, 3

## PPTC042LFBN-RC
designator J?
CONN HDR 8POS 0.1 TIN PCB; Manufacturer: Sullins Connector Solutions; Is Female: yes; Conn Orientation: Straight; Conn Gender: Female; Number Of Contacts: 8; Pitch: 2.54mm; Voltage Rating: 250V; Current Rating: 3A; Package: PPTC042LFBN-RC; Number Of Rows: 2; Manufacturer Part Number: PPTC042LFBN-RC; Contact Material: Tin,Nickel; Temperature: -40°C to +105°C; Height: 8.65mm; Device Class L2: Headers and Wire Housings; Octopart: https://octopart.com/pptc042lfbn-rc-sullins-271088; RoHS: TRUE; ComponentLink2URL: https://drawings-pdf.s3.amazonaws.com/10492.pdf; Lead Free: Yes; Automotive: No; Device Class L3: unset; ComponentLink2Description: Datasheet; Temperature Range High: +105°C; Digikey Description: CONN HDR 8POS 0.1 TIN PCB; Category: Conn; Device Class L1: Connectors; Temperature Range Low: -40°C; Supplier: Digi-Key; Supplier Part Number: S7072-ND
footprint FP-PPTC042LFBN-RC-MFG
part A pins: 1, 3, 5, 7
part B pins: 2, 4, 6, 8

## PTS645SM43SMTR92_LFS
designator SW?, comment PTS645SM43SMTR92LFS
SWITCH TACTILE SPST-NO 0.05A 12V; Manufacturer: C&K; Contact Resistance: 100mR; Throw Configuration: SPST; Illumination Type: Non-Illuminated; Mechanical Life: 100000Cycles; Current Rating: 50mA; Switch Function: Off-Mom; Actuator Length: 0.85mm; Actuator Material: Nylon; Actuator Type: Standard; Operating Force: 160gf; Min Operating Temperature: -20°C; REACH SVHC: No SVHC; Termination: Gull Wing; Case/Package: SMD/SMT; Packaging: Tape and Reel; Mount: Surface Mount; Voltage Rating (DC): 12V; Orientation: Straight; Lead Free: Lead Free; Contact Material: Silver; Color: Black; Max Current Rating: 50mA; Contact Plating: Silver; Depth: 9mm; Package Quantity: 1; Max Voltage Rating (DC): 12V; Length: 6mm; Max Operating Temperature: 60°C; Manufacturer Part Number: PTS645SM43SMTR92 LFS; Supplier: Digi-Key; Supplier Part Number: CKN9112CT-ND
footprint FP-PTS645SM43SMTR92LFS-MFG
pins: 1, 2, 3, 4

## RCU-0C
designator TP?  (value not drawn)
Natural PC Test Point , Plating Surface Mount Mounting Type; Manufacturer: TE Connectivity AMP Connectors; Manufacturer Part Number: RCU-0C; Value: *; Package: SON-6 TE Connectivity AMP Connectors; Purchase-URL: https://pricing.snapeda.com/search/part/RCU-0C/?ref=eda; Supplier Part Number: A106145CT-ND; Check_prices: https://www.snapeda.com/parts/RCU-0C/TE%20Connectivity/view-part/4791537/?ref=eda; SnapEDA_Link: https://www.snapeda.com/parts/RCU-0C/TE%20Connectivity/view-part/4791537/?ref=snap; Supplier: Digi-Key
footprint TP+195X110
pins: 1

## RK7002BMT116
designator Q?
No Description Available; Mfr_Name: ROHM Semiconductor; Type: DEV; Copyright: Copyright (C) 2022 Ultra Librarian. All rights reserved.; Manufacturer_Part_Number: RK7002BMT116; Digi-Key_Part_Number_1: RK7002BMT116CT-ND; Digi-Key_Part_Number_2: RK7002BMT116DKR-ND; Digi-Key_Part_Number_3: RK7002BMT116TR-ND; RefDes: RefDes
footprint TRANS_RK7002BMHZG_ROM
pins: 1, 2, 3

## SP7538PUTG
designator D?  Manufacturer Part Number: SP7538PUTG  (hidden comment: *)
ESD Suppressor TVS Octal Uni-Dir 25kV 9-Pin UDFN T/R; Manufacturer: Littelfuse; Number of Unidirectional Channels: 8; Reverse Standoff Voltage: 5V; Clamping Voltage: 7V; Peak Pulse Current: 2A; Power Line Protection: Yes; Supplier: Digi-Key; RoHS: Yes; Category: TVS Diodes; Stock 1: 40273; Pricing 1: 1=0.95000, 10=0.85200, 100=0.66410, 500=0.54862, 1000=0.43838 (USD); Mount: Surface Mount; Number of Pins: 9; Min Operating Temperature: -40°C; Max Operating Temperature: 150°C; Packaging: Cut Tape; RoHS Compliant: Yes; ComponentLink1URL: http://www.littelfuse.com/~/media/electronics/datasheets/tvs_diode_arrays/littelfuse_tvs_diode_array_sp7538p_datasheet.pdf.pdf?src-supplier=Farnell; ComponentLink1Description: http://www.littelfuse.com/~/media/electronics/datasheets/tvs_diode_arrays/littelfuse_tvs_diode_array_sp7538p_datasheet.pdf.pdf?src-supplier=Farnell; ComponentLink2URL: http://www.littelfuse.com/~/media/electronics/datasheets/tvs_diode_arrays/littelfuse_tvs_diode_array_sp7538p_datasheet.pdf.pdf?src-supplier=Digi-Key; ComponentLink2Description: http://www.littelfuse.com/~/media/electronics/datasheets/tvs_diode_arrays/littelfuse_tvs_diode_array_sp7538p_datasheet.pdf.pdf?src-supplier=Digi-Key; ComponentLink3URL: https://www.littelfuse.com/~/media/electronics/datasheets/tvs_diode_arrays/littelfuse_tvs_diode_array_sp7538p_datasheet.pdf.pdf?src-supplier=Digi-Key; ComponentLink3Description: https://www.littelfuse.com/~/media/electronics/datasheets/tvs_diode_arrays/littelfuse_tvs_diode_array_sp7538p_datasheet.pdf.pdf?src-supplier=Digi-Key; ComponentLink4URL: http://www.littelfuse.com/~/media/electronics/datasheets/tvs_diode_arrays/littelfuse_tvs_diode_array_sp7538p_datasheet.pdf.pdf?src-supplier=Arrow+Electronics; ComponentLink4Description: http://www.littelfuse.com/~/media/electronics/datasheets/tvs_diode_arrays/littelfuse_tvs_diode_array_sp7538p_datasheet.pdf.pdf?src-supplier=Arrow+Electronics; ComponentLink5URL: http://www.littelfuse.com/~/media/electronics/datasheets/tvs_diode_arrays/littelfuse_tvs_diode_array_sp7538p_datasheet.pdf.pdf?src-supplier=Mouser; ComponentLink5Description: http://www.littelfuse.com/~/media/electronics/datasheets/tvs_diode_arrays/littelfuse_tvs_diode_array_sp7538p_datasheet.pdf.pdf?src-supplier=Mouser; ComponentLink6URL: http://www.littelfuse.com/~/media/electronics/datasheets/tvs_diode_arrays/littelfuse_tvs_diode_array_sp7538p_datasheet.pdf.pdf?src-supplier=Verical; ComponentLink6Description: http://www.littelfuse.com/~/media/electronics/datasheets/tvs_diode_arrays/littelfuse_tvs_diode_array_sp7538p_datasheet.pdf.pdf?src-supplier=Verical; ComponentLink7URL: http://www.littelfuse.com/~/media/electronics/datasheets/tvs_diode_arrays/littelfuse_tvs_diode_array_sp7538p_datasheet.pdf.pdf?src-supplier=Newark; ComponentLink7Description: http://www.littelfuse.com/~/media/electronics/datasheets/tvs_diode_arrays/littelfuse_tvs_diode_array_sp7538p_datasheet.pdf.pdf?src-supplier=Newark; ComponentLink8URL: http://www.littelfuse.com/~/media/electronics/datasheets/tvs_diode_arrays/littelfuse_tvs_diode_array_sp7538p_datasheet.pdf.pdf?src-supplier=TTI; ComponentLink8Description: http://www.littelfuse.com/~/media/electronics/datasheets/tvs_diode_arrays/littelfuse_tvs_diode_array_sp7538p_datasheet.pdf.pdf?src-supplier=TTI; Supplier Part Number: F7417CT-ND
footprint SP7538PUTG
pins: 1, 2, 3, 4, 5, 6, 7, 8, 9

## SW-SPST
designator S?  Manufacturer Part Number: GF-126-0159  Supplier Part Number: SW342-ND  Supplier: Digi-Key  Manufacturer: CW Industries
Single-Pole, Single-Throw Switch; Published: 24-Mar-1999; LatestRevisionDate: 17-Jul-2002; LatestRevisionNote: Re-released for DXP Platform.; PackageReference: SPST-2; Publisher: Altium Limited; PackageDescription: Switch; 2 Leads
pins: 1 COMMON, 2 NO

## UWR1A101MCL1GB
designator C?  Voltage: 10V  Capacitance: 100uF
No Description Available; Manufacturer: Nichicon; Type: DEV; Copyright: Copyright (C) 2022 Ultra Librarian. All rights reserved.; Manufacturer Part Number: UWR1A101MCL1GB; Digi-Key_Part_Number_1: 493-14561-1-ND; Digi-Key_Part_Number_2: 493-14561-2-ND; Digi-Key_Part_Number_3: 493-14561-6-ND; RefDes: RefDes; Supplier: Digi-Key; Supplier Part Number: 493-14561-1-ND
footprint CAP_UWF_5X5P4_NCH-M
pins: 1, 2